# Altium schematic symbol library Connectors.SchLib: 10 symbols
Pins are listed as number, name and electrical type; pins without a type are passive.

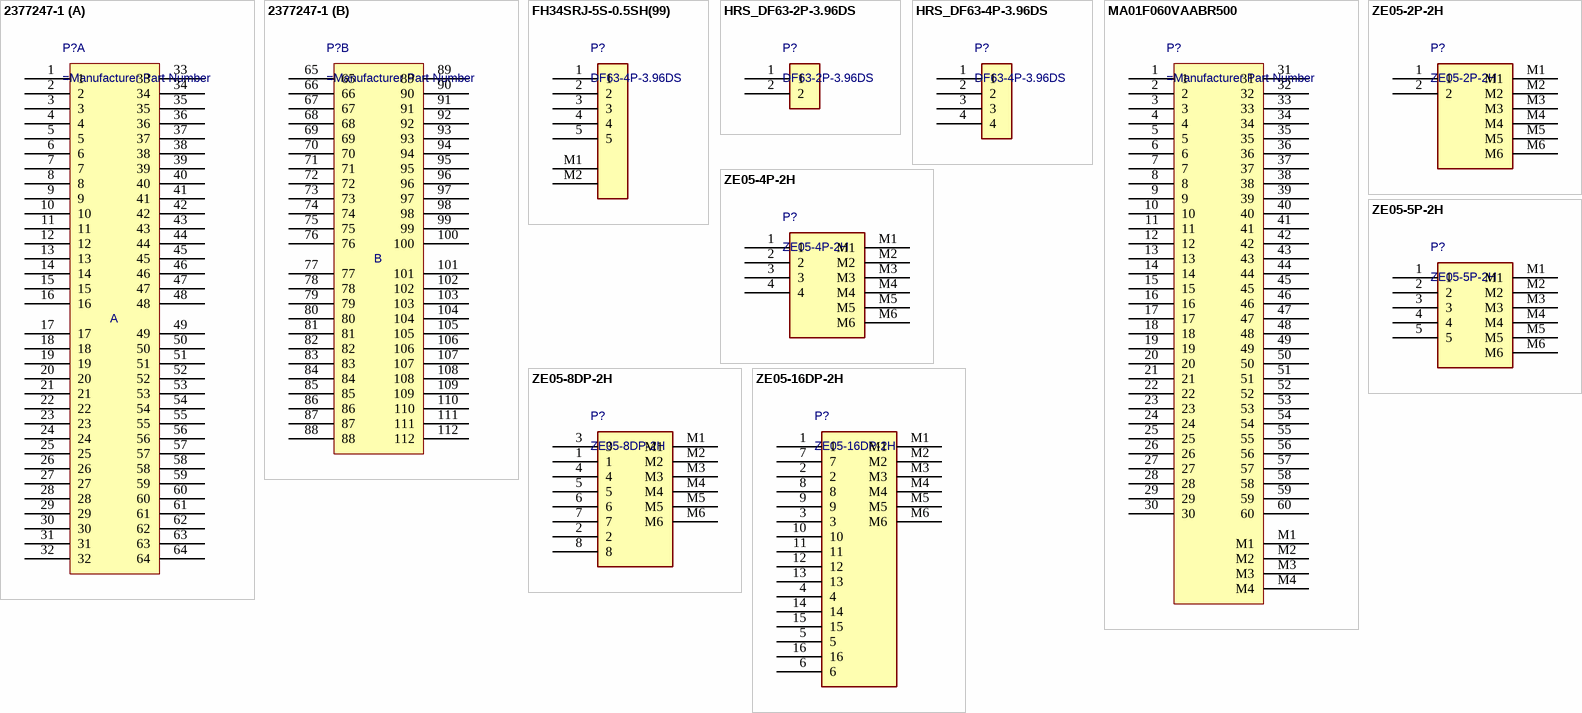
[diagram p0: symbols 2377247-1 to ZE05-16DP-2H]

## 2377247-1
designator P?
footprint 32377247-1 (Automotive Connector 112Pin)
part A pins: 1, 2, 3, 4, 5, 6, 7, 8, 9, 10, 11, 12, 13, 14, 15, 16, 17, 18, 19, 20, 21, 22, 23, 24, 25, 26, 27, 28, 29, 30, 31, 32, 33, 34, 35, 36, 37, 38, 39, 40, 41, 42, 43, 44, 45, 46, 47, 48, 49, 50, 51, 52, 53, 54, 55, 56, 57, 58, 59, 60, 61, 62, 63, 64
part B pins: 65, 66, 67, 68, 69, 70, 71, 72, 73, 74, 75, 76, 77, 78, 79, 80, 81, 82, 83, 84, 85, 86, 87, 88, 89, 90, 91, 92, 93, 94, 95, 96, 97, 98, 99, 100, 101, 102, 103, 104, 105, 106, 107, 108, 109, 110, 111, 112
part A text: A
part B text: B

## FH34SRJ-5S-0.5SH(99)
designator P?, comment DF63-4P-3.96DS
RoHS Compliant Tape & Reel (TR) (Flat Flex Type) (Connector/Contact Type) Connector; Manufacturer: HIROSE ELECTRIC; Manufacturer Part Number: FH34SRJ-5S-0.5SH(99); Supplier 1: DigiKey; Supplier Part Number 1: FH34SRJ-5S-0.5SH(99)-ND; Supplier: DigiKey; Supplier Part Number: FH34SRJ-5S-0.5SH(99)-ND; RoHS: Compliant; Category: Card Edge Connectors; Pricing: 500=1,20602 (USD); Lifecycle Status: Production; REACH SVHC: Yes; ComponentLink1URL: https://datasheet.octopart.com:443/FH34SRJ-5S-0.5SH%2899%29-HIROSE-ELECTRIC-datasheet-151619939.pdf?src-supplier=IHS; ComponentLink1Description: https://datasheet.octopart.com:443/FH34SRJ-5S-0.5SH%2899%29-HIROSE-ELECTRIC-datasheet-151619939.pdf?src-supplier=IHS; ComponentLink2URL: https://datasheet.octopart.com:443/FH34SRJ-5S-0.5SH%2899%29-Hirose-datasheet-145364452.pdf?src-supplier=Hirose+SCT; ComponentLink2Description: https://datasheet.octopart.com:443/FH34SRJ-5S-0.5SH%2899%29-Hirose-datasheet-145364452.pdf?src-supplier=Hirose+SCT; ComponentLink3URL: https://sigma.octopart.com:443/145364455/technical_drawing/Hirose-FH34SRJ-5S-0.5SH%2899%29.pdf?src-supplier=Hirose+SCT; ComponentLink3Description: https://sigma.octopart.com:443/145364455/technical_drawing/Hirose-FH34SRJ-5S-0.5SH%2899%29.pdf?src-supplier=Hirose+SCT; ComponentLink4URL: https://datasheet.octopart.com:443/FH34SRJ-5S-0.5SH%2899%29-Hirose-datasheet-137333288.pdf?src-supplier=Sager+Electronics; ComponentLink4Description: https://datasheet.octopart.com:443/FH34SRJ-5S-0.5SH%2899%29-Hirose-datasheet-137333288.pdf?src-supplier=Sager+Electronics
footprint FH34SRJ-5S-0.5SH(99)
pins: 1, 2, 3, 4, 5, M1, M2

## HRS_DF63-2P-3.96DS
designator P?, comment DF63-2P-3.96DS
footprint HRS_DF63-2P-3.96DS
pins: 1, 2

## HRS_DF63-4P-3.96DS
designator P?, comment DF63-4P-3.96DS
Supplier 1: DigiKey; Supplier Part Number 1: DF63-4P-3.96DS-ND
footprint HRS_DF63-4P-3.96DS
pins: 1, 2, 3, 4

## MA01F060VAABR500
designator P?
footprint MA01F060VAABR500
pins: 1, 2, 3, 4, 5, 6, 7, 8, 9, 10, 11, 12, 13, 14, 15, 16, 17, 18, 19, 20, 21, 22, 23, 24, 25, 26, 27, 28, 29, 30, 31, 32, 33, 34, 35, 36, 37, 38, 39, 40, 41, 42, 43, 44, 45, 46, 47, 48, 49, 50, 51, 52, 53, 54, 55, 56, 57, 58, 59, 60, M1, M2, M3, M4

## ZE05-2P-2H
designator P?
Automotive Conn, R/A Header, 2Pos, 2A Rohs Compliant: Yes |Hirose/hrs ZE05-2P-2H; Manufacturer: HIROSE ELECTRIC; Connector Type: Receptacle; Supplier 1: DigiKey; Supplier Part Number 1: 26-ZE05-2P-2HCT-ND; Supplier: DigiKey; Supplier Part Number: 26-ZE05-2P-2HCT-ND; Manufacturer Part Number: ZE05-2P-2H; RoHS: Compliant; Category: Card Edge Connectors; Pricing: 1=1,53, 10=1,297, 25=1,2152, 50=1,1572, 100=1,1018 (USD); Height: 8.34mm; Length: 12.32mm; Lifecycle Status: Production; Max Operating Temperature: 125°C; Min Operating Temperature: -40°C; Pins: 2; Orientation: Right Angle; REACH SVHC: Yes; Width: 14.8mm; ComponentLink1URL: https://datasheet.octopart.com:443/ZE05-2P-2H-HIROSE-ELECTRIC-datasheet-180012703.pdf?src-supplier=IHS; ComponentLink1Description: https://datasheet.octopart.com:443/ZE05-2P-2H-HIROSE-ELECTRIC-datasheet-180012703.pdf?src-supplier=IHS; ComponentLink2URL: https://datasheet.octopart.com:443/ZE05-2P-2H-HIROSE-ELECTRIC-datasheet-189101943.pdf?src-supplier=Master+Electronics; ComponentLink2Description: https://datasheet.octopart.com:443/ZE05-2P-2H-HIROSE-ELECTRIC-datasheet-189101943.pdf?src-supplier=Master+Electronics; ComponentLink3URL: https://datasheet.octopart.com:443/ZE05-2P-2H-HIROSE-ELECTRIC-datasheet-188748195.pdf?src-supplier=Master+Electronics; ComponentLink3Description: https://datasheet.octopart.com:443/ZE05-2P-2H-HIROSE-ELECTRIC-datasheet-188748195.pdf?src-supplier=Master+Electronics; ComponentLink4URL: https://datasheet.octopart.com:443/ZE05-2P-2H-HIROSE-ELECTRIC-datasheet-181928072.pdf?src-supplier=Electro+Sonic; ComponentLink4Description: https://datasheet.octopart.com:443/ZE05-2P-2H-HIROSE-ELECTRIC-datasheet-181928072.pdf?src-supplier=Electro+Sonic; ComponentLink5URL: https://datasheet.octopart.com:443/ZE05-2P-2H-Hirose-datasheet-141146741.pdf?src-supplier=Hirose+SCT; ComponentLink5Description: https://datasheet.octopart.com:443/ZE05-2P-2H-Hirose-datasheet-141146741.pdf?src-supplier=Hirose+SCT; ComponentLink6URL: https://sigma.octopart.com:443/145369992/technical_drawing/Hirose-ZE05-2P-2H.pdf?src-supplier=Hirose+SCT; ComponentLink6Description: https://sigma.octopart.com:443/145369992/technical_drawing/Hirose-ZE05-2P-2H.pdf?src-supplier=Hirose+SCT; ComponentLink7URL: https://datasheet.octopart.com:443/ZE05-2P-2H-HIROSE-ELECTRIC-datasheet-176457996.pdf?src-supplier=Future+Electronics; ComponentLink7Description: https://datasheet.octopart.com:443/ZE05-2P-2H-HIROSE-ELECTRIC-datasheet-176457996.pdf?src-supplier=Future+Electronics; ComponentLink8URL: https://datasheet.octopart.com:443/ZE05-2P-2H-Hirose-datasheet-158236516.pdf?src-supplier=Future+Electronics; ComponentLink8Description: https://datasheet.octopart.com:443/ZE05-2P-2H-Hirose-datasheet-158236516.pdf?src-supplier=Future+Electronics; ComponentLink9URL: https://datasheet.octopart.com:443/ZE05-2P-2H-Hirose-datasheet-168215454.pdf?src-supplier=TME; ComponentLink9Description: https://datasheet.octopart.com:443/ZE05-2P-2H-Hirose-datasheet-168215454.pdf?src-supplier=TME
footprint ZE05-2P-2H
pins: 1, 2, M1, M2, M3, M4, M5, M6

## ZE05-4P-2H
designator P?
Automotive Connectors Right Angle Receptacle, DIP Solder Tabs, 4 Position; Manufacturer: HIROSE ELECTRIC; Supplier 1: DigiKey; Supplier Part Number 1: 26-ZE05-4P-2HCT-ND; Supplier: DigiKey; Supplier Part Number: 26-ZE05-4P-2HCT-ND; Manufacturer Part Number: ZE05-4P-2H; RoHS: Compliant; Category: Card Edge Connectors; Stock: 351; Pricing: 1=1,69, 10=1,434, 25=1,3444, 50=1,28, 100=1,2188 (USD); Connector Type: Receptacle; Contact Plating: Tin; Height: 8.34mm; Length: 16.32mm; Lifecycle Status: Production; Max Operating Temperature: 125°C; Min Operating Temperature: -40°C; Pins: 4; Orientation: Right Angle; REACH SVHC: Yes; Width: 14.8mm; ComponentLink1URL: https://datasheet.octopart.com:443/ZE05-4P-2H-HIROSE-ELECTRIC-datasheet-180012703.pdf?src-supplier=IHS; ComponentLink1Description: https://datasheet.octopart.com:443/ZE05-4P-2H-HIROSE-ELECTRIC-datasheet-180012703.pdf?src-supplier=IHS; ComponentLink2URL: https://datasheet.octopart.com:443/ZE05-4P-2H-HIROSE-ELECTRIC-datasheet-189101943.pdf?src-supplier=Master+Electronics; ComponentLink2Description: https://datasheet.octopart.com:443/ZE05-4P-2H-HIROSE-ELECTRIC-datasheet-189101943.pdf?src-supplier=Master+Electronics; ComponentLink3URL: https://datasheet.octopart.com:443/ZE05-4P-2H-HIROSE-ELECTRIC-datasheet-188748195.pdf?src-supplier=Master+Electronics; ComponentLink3Description: https://datasheet.octopart.com:443/ZE05-4P-2H-HIROSE-ELECTRIC-datasheet-188748195.pdf?src-supplier=Master+Electronics; ComponentLink4URL: https://datasheet.octopart.com:443/ZE05-4P-2H-HIROSE-ELECTRIC-datasheet-181928072.pdf?src-supplier=Electro+Sonic; ComponentLink4Description: https://datasheet.octopart.com:443/ZE05-4P-2H-HIROSE-ELECTRIC-datasheet-181928072.pdf?src-supplier=Electro+Sonic; ComponentLink5URL: https://datasheet.octopart.com:443/ZE05-4P-2H-HIROSE-ELECTRIC-datasheet-176457996.pdf?src-supplier=Future+Electronics; ComponentLink5Description: https://datasheet.octopart.com:443/ZE05-4P-2H-HIROSE-ELECTRIC-datasheet-176457996.pdf?src-supplier=Future+Electronics; ComponentLink6URL: https://datasheet.octopart.com:443/ZE05-4P-2H-Hirose-datasheet-168215454.pdf?src-supplier=TME; ComponentLink6Description: https://datasheet.octopart.com:443/ZE05-4P-2H-Hirose-datasheet-168215454.pdf?src-supplier=TME; ComponentLink7URL: https://datasheet.octopart.com:443/ZE05-4P-2H-Hirose-datasheet-149155786.pdf?src-supplier=Sager+Electronics; ComponentLink7Description: https://datasheet.octopart.com:443/ZE05-4P-2H-Hirose-datasheet-149155786.pdf?src-supplier=Sager+Electronics; ComponentLink8URL: https://datasheet.octopart.com:443/ZE05-4P-2H-Hirose-datasheet-137351164.pdf?src-supplier=Sager+Electronics; ComponentLink8Description: https://datasheet.octopart.com:443/ZE05-4P-2H-Hirose-datasheet-137351164.pdf?src-supplier=Sager+Electronics; ComponentLink9URL: https://sigma.octopart.com:443/145369994/technical_drawing/Hirose-ZE05-4P-2H.pdf?src-supplier=Hirose+SCT; ComponentLink9Description: https://sigma.octopart.com:443/145369994/technical_drawing/Hirose-ZE05-4P-2H.pdf?src-supplier=Hirose+SCT; ComponentLink10URL: https://datasheet.octopart.com:443/ZE05-4P-2H-Hirose-datasheet-141146741.pdf?src-supplier=Hirose+SCT; ComponentLink10Description: https://datasheet.octopart.com:443/ZE05-4P-2H-Hirose-datasheet-141146741.pdf?src-supplier=Hirose+SCT
footprint ZE05-4P-2H
pins: 1, 2, 3, 4, M1, M2, M3, M4, M5, M6

## ZE05-5P-2H
designator P?
Automotive Conn, R/A Header, 5Pos, 2A Rohs Compliant: Yes |Hirose/hrs ZE05-5P-2H; Manufacturer: HIROSE ELECTRIC; Connector Type: Receptacle; Supplier 1: DigiKey; Supplier Part Number 1: 26-ZE05-5P-2HCT-ND; Supplier: DigiKey; Supplier Part Number: 26-ZE05-5P-2HCT-ND; Manufacturer Part Number: ZE05-5P-2H; RoHS: Compliant; Category: Card Edge Connectors; Stock: 640; Pricing: 1=1,83, 10=1,551, 25=1,454, 50=1,3844, 100=1,3182 (USD); Height: 8.34mm; Length: 18.32mm; Lifecycle Status: Production; Max Operating Temperature: 125°C; Min Operating Temperature: -40°C; Pins: 5; Orientation: Right Angle; REACH SVHC: Yes; Width: 14.8mm; ComponentLink1URL: https://datasheet.octopart.com:443/ZE05-5P-2H-HIROSE-ELECTRIC-datasheet-180012703.pdf?src-supplier=IHS; ComponentLink1Description: https://datasheet.octopart.com:443/ZE05-5P-2H-HIROSE-ELECTRIC-datasheet-180012703.pdf?src-supplier=IHS; ComponentLink2URL: https://datasheet.octopart.com:443/ZE05-5P-2H-HIROSE-ELECTRIC-datasheet-189101943.pdf?src-supplier=Master+Electronics; ComponentLink2Description: https://datasheet.octopart.com:443/ZE05-5P-2H-HIROSE-ELECTRIC-datasheet-189101943.pdf?src-supplier=Master+Electronics; ComponentLink3URL: https://datasheet.octopart.com:443/ZE05-5P-2H-HIROSE-ELECTRIC-datasheet-188748195.pdf?src-supplier=Master+Electronics; ComponentLink3Description: https://datasheet.octopart.com:443/ZE05-5P-2H-HIROSE-ELECTRIC-datasheet-188748195.pdf?src-supplier=Master+Electronics; ComponentLink4URL: https://datasheet.octopart.com:443/ZE05-5P-2H-HIROSE-ELECTRIC-datasheet-181928072.pdf?src-supplier=Electro+Sonic; ComponentLink4Description: https://datasheet.octopart.com:443/ZE05-5P-2H-HIROSE-ELECTRIC-datasheet-181928072.pdf?src-supplier=Electro+Sonic; ComponentLink5URL: https://datasheet.octopart.com:443/ZE05-5P-2H-Hirose-datasheet-141146741.pdf?src-supplier=Hirose+SCT; ComponentLink5Description: https://datasheet.octopart.com:443/ZE05-5P-2H-Hirose-datasheet-141146741.pdf?src-supplier=Hirose+SCT; ComponentLink6URL: https://datasheet.octopart.com:443/ZE05-5P-2H-HIROSE-ELECTRIC-datasheet-176457996.pdf?src-supplier=Future+Electronics; ComponentLink6Description: https://datasheet.octopart.com:443/ZE05-5P-2H-HIROSE-ELECTRIC-datasheet-176457996.pdf?src-supplier=Future+Electronics; ComponentLink7URL: https://datasheet.octopart.com:443/ZE05-5P-2H-Hirose-datasheet-168215454.pdf?src-supplier=TME; ComponentLink7Description: https://datasheet.octopart.com:443/ZE05-5P-2H-Hirose-datasheet-168215454.pdf?src-supplier=TME
footprint ZE05-5P-2H
pins: 1, 2, 3, 4, 5, M1, M2, M3, M4, M5, M6

## ZE05-8DP-2H
designator P?
Automotive Connectors Right Angle Receptacle, DIP Solder Tabs, 8 Position; Manufacturer: HIROSE ELECTRIC; Supplier 1: DigiKey; Supplier Part Number 1: 26-ZE05-8DP-2HCT-ND; Supplier: DigiKey; Supplier Part Number: 26-ZE05-8DP-2HCT-ND; Manufacturer Part Number: ZE05-8DP-2H; RoHS: Compliant; Category: Card Edge Connectors; Stock: 76; Pricing: 1=1,89, 10=1,609, 25=1,5084, 50=1,4362, 100=1,3676 (USD); Connector Type: Receptacle; Height: 8.84mm; Length: 18.52mm; Lifecycle Status: Production; Max Operating Temperature: 125°C; Min Operating Temperature: -40°C; Pins: 8; Orientation: Right Angle; REACH SVHC: Yes; Width: 14.8mm; ComponentLink1URL: https://datasheet.octopart.com:443/ZE05-8DP-2H-HIROSE-ELECTRIC-datasheet-180012703.pdf?src-supplier=IHS; ComponentLink1Description: https://datasheet.octopart.com:443/ZE05-8DP-2H-HIROSE-ELECTRIC-datasheet-180012703.pdf?src-supplier=IHS; ComponentLink2URL: https://datasheet.octopart.com:443/ZE05-8DP-2H-HIROSE-ELECTRIC-datasheet-189101943.pdf?src-supplier=Master+Electronics; ComponentLink2Description: https://datasheet.octopart.com:443/ZE05-8DP-2H-HIROSE-ELECTRIC-datasheet-189101943.pdf?src-supplier=Master+Electronics; ComponentLink3URL: https://datasheet.octopart.com:443/ZE05-8DP-2H-HIROSE-ELECTRIC-datasheet-188748195.pdf?src-supplier=Master+Electronics; ComponentLink3Description: https://datasheet.octopart.com:443/ZE05-8DP-2H-HIROSE-ELECTRIC-datasheet-188748195.pdf?src-supplier=Master+Electronics; ComponentLink4URL: https://datasheet.octopart.com:443/ZE05-8DP-2H-HIROSE-ELECTRIC-datasheet-181928072.pdf?src-supplier=Electro+Sonic; ComponentLink4Description: https://datasheet.octopart.com:443/ZE05-8DP-2H-HIROSE-ELECTRIC-datasheet-181928072.pdf?src-supplier=Electro+Sonic; ComponentLink5URL: https://datasheet.octopart.com:443/ZE05-8DP-2H-HIROSE-ELECTRIC-datasheet-176457996.pdf?src-supplier=Future+Electronics; ComponentLink5Description: https://datasheet.octopart.com:443/ZE05-8DP-2H-HIROSE-ELECTRIC-datasheet-176457996.pdf?src-supplier=Future+Electronics; ComponentLink6URL: https://datasheet.octopart.com:443/ZE05-8DP-2H-Hirose-datasheet-168215454.pdf?src-supplier=TME; ComponentLink6Description: https://datasheet.octopart.com:443/ZE05-8DP-2H-Hirose-datasheet-168215454.pdf?src-supplier=TME; ComponentLink7URL: https://datasheet.octopart.com:443/ZE05-8DP-2H-Hirose-datasheet-149155786.pdf?src-supplier=Sager+Electronics; ComponentLink7Description: https://datasheet.octopart.com:443/ZE05-8DP-2H-Hirose-datasheet-149155786.pdf?src-supplier=Sager+Electronics; ComponentLink8URL: https://sigma.octopart.com:443/145369997/technical_drawing/Hirose-ZE05-8DP-2H.pdf?src-supplier=Hirose+SCT; ComponentLink8Description: https://sigma.octopart.com:443/145369997/technical_drawing/Hirose-ZE05-8DP-2H.pdf?src-supplier=Hirose+SCT; ComponentLink9URL: https://datasheet.octopart.com:443/ZE05-8DP-2H-Hirose-datasheet-141146741.pdf?src-supplier=Hirose+SCT; ComponentLink9Description: https://datasheet.octopart.com:443/ZE05-8DP-2H-Hirose-datasheet-141146741.pdf?src-supplier=Hirose+SCT
footprint ZE05-8DP-2H
pins: 1, 2, 3, 4, 5, 6, 7, 8, M1, M2, M3, M4, M5, M6

## ZE05-16DP-2H
designator P?
Automotive Conn, R/A Header, 16Pos, 2A Rohs Compliant: Yes |Hirose/hrs ZE05-16DP-2H; Manufacturer: HIROSE ELECTRIC; Connector Type: Receptacle; Supplier 1: DigiKey; Supplier Part Number 1: 26-ZE05-16DP-2HCT-ND; Supplier: DigiKey; Supplier Part Number: 26-ZE05-16DP-2HCT-ND; Manufacturer Part Number: ZE05-16DP-2H; RoHS: Compliant; Category: Card Edge Connectors; Stock: 286; Pricing: 1=2,43, 10=2,068, 25=1,9384, 50=1,8458, 100=1,7576 (USD); Height: 8.84mm; Length: 28.52mm; Lifecycle Status: Production; Max Operating Temperature: 125°C; Min Operating Temperature: -40°C; Pins: 16; Orientation: Right Angle; REACH SVHC: Yes; Width: 14.8mm; ComponentLink1URL: https://datasheet.octopart.com:443/ZE05-16DP-2H-HIROSE-ELECTRIC-datasheet-180012703.pdf?src-supplier=IHS; ComponentLink1Description: https://datasheet.octopart.com:443/ZE05-16DP-2H-HIROSE-ELECTRIC-datasheet-180012703.pdf?src-supplier=IHS; ComponentLink2URL: https://datasheet.octopart.com:443/ZE05-16DP-2H-HIROSE-ELECTRIC-datasheet-189101943.pdf?src-supplier=Master+Electronics; ComponentLink2Description: https://datasheet.octopart.com:443/ZE05-16DP-2H-HIROSE-ELECTRIC-datasheet-189101943.pdf?src-supplier=Master+Electronics; ComponentLink3URL: https://datasheet.octopart.com:443/ZE05-16DP-2H-HIROSE-ELECTRIC-datasheet-188748195.pdf?src-supplier=Master+Electronics; ComponentLink3Description: https://datasheet.octopart.com:443/ZE05-16DP-2H-HIROSE-ELECTRIC-datasheet-188748195.pdf?src-supplier=Master+Electronics; ComponentLink4URL: https://datasheet.octopart.com:443/ZE05-16DP-2H-HIROSE-ELECTRIC-datasheet-181928072.pdf?src-supplier=Electro+Sonic; ComponentLink4Description: https://datasheet.octopart.com:443/ZE05-16DP-2H-HIROSE-ELECTRIC-datasheet-181928072.pdf?src-supplier=Electro+Sonic; ComponentLink5URL: https://datasheet.octopart.com:443/ZE05-16DP-2H-Hirose-datasheet-141146741.pdf?src-supplier=Hirose+SCT; ComponentLink5Description: https://datasheet.octopart.com:443/ZE05-16DP-2H-Hirose-datasheet-141146741.pdf?src-supplier=Hirose+SCT; ComponentLink6URL: https://sigma.octopart.com:443/145369985/technical_drawing/Hirose-ZE05-16DP-2H.pdf?src-supplier=Hirose+SCT; ComponentLink6Description: https://sigma.octopart.com:443/145369985/technical_drawing/Hirose-ZE05-16DP-2H.pdf?src-supplier=Hirose+SCT; ComponentLink7URL: https://datasheet.octopart.com:443/ZE05-16DP-2H-HIROSE-ELECTRIC-datasheet-176457996.pdf?src-supplier=Future+Electronics; ComponentLink7Description: https://datasheet.octopart.com:443/ZE05-16DP-2H-HIROSE-ELECTRIC-datasheet-176457996.pdf?src-supplier=Future+Electronics; ComponentLink8URL: https://datasheet.octopart.com:443/ZE05-16DP-2H-Hirose-datasheet-158236516.pdf?src-supplier=Future+Electronics; ComponentLink8Description: https://datasheet.octopart.com:443/ZE05-16DP-2H-Hirose-datasheet-158236516.pdf?src-supplier=Future+Electronics; ComponentLink9URL: https://datasheet.octopart.com:443/ZE05-16DP-2H-Hirose-datasheet-168215454.pdf?src-supplier=TME; ComponentLink9Description: https://datasheet.octopart.com:443/ZE05-16DP-2H-Hirose-datasheet-168215454.pdf?src-supplier=TME
footprint ZE05-16DP-2H
pins: 1, 2, 3, 4, 5, 6, 7, 8, 9, 10, 11, 12, 13, 14, 15, 16, M1, M2, M3, M4, M5, M6